# EAGLE library part AZ850 (library AZ850)
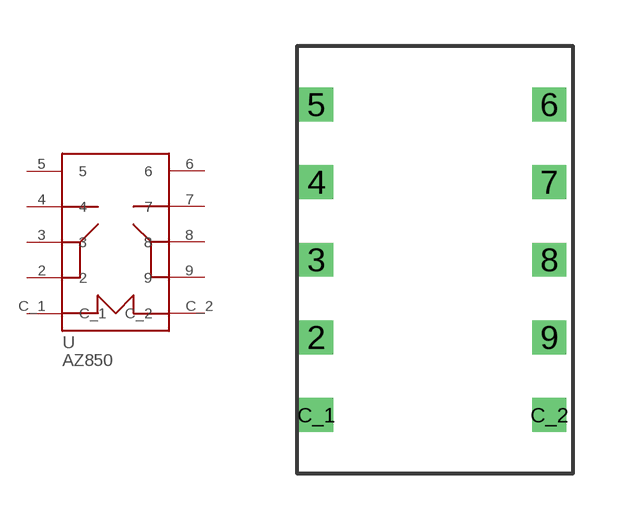
[diagram p0: symbol with the pads of AZ850; footprint AZ850]

Designator prefix -

## AZ850  [AZ850]
2  2
3  3
4  4
5  5
6  6
7  7
8  8
9  9
C_1  С_1  pwr
C_2  С_2  pwr

## Footprint AZ850 (pad centres in mm)
drill 0.6 square: 2 -3.93,-2.54; 3 -3.93,0; 4 -3.93,2.54; 5 -3.93,5.08; 6 3.69,5.08; 7 3.69,2.54; 8 3.69,0; 9 3.69,-2.54; C_1 -3.93,-5.08; C_2 3.69,-5.08